# Altium schematic symbol library 0805 RES.Schlib: 1 symbol
Pins are listed as number, name and electrical type; pins without a type are passive.

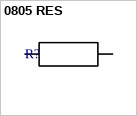
[diagram p0: symbol 0805 RES]

## 0805 RES
designator R?
Resistor
pins: 1, 2